# Altium footprint library Pulsadores.PcbLib: 9 footprints
Each footprint in its own frame and in the unit in brackets; x right, y up, seen from the top. Pads: shape width x height; smd on the part's side, far side on the other; paste and mask are expansions set on the pad; w line width, h text height; cw(c..) or ccw(c..) is an arc to the next point about the centre after c.
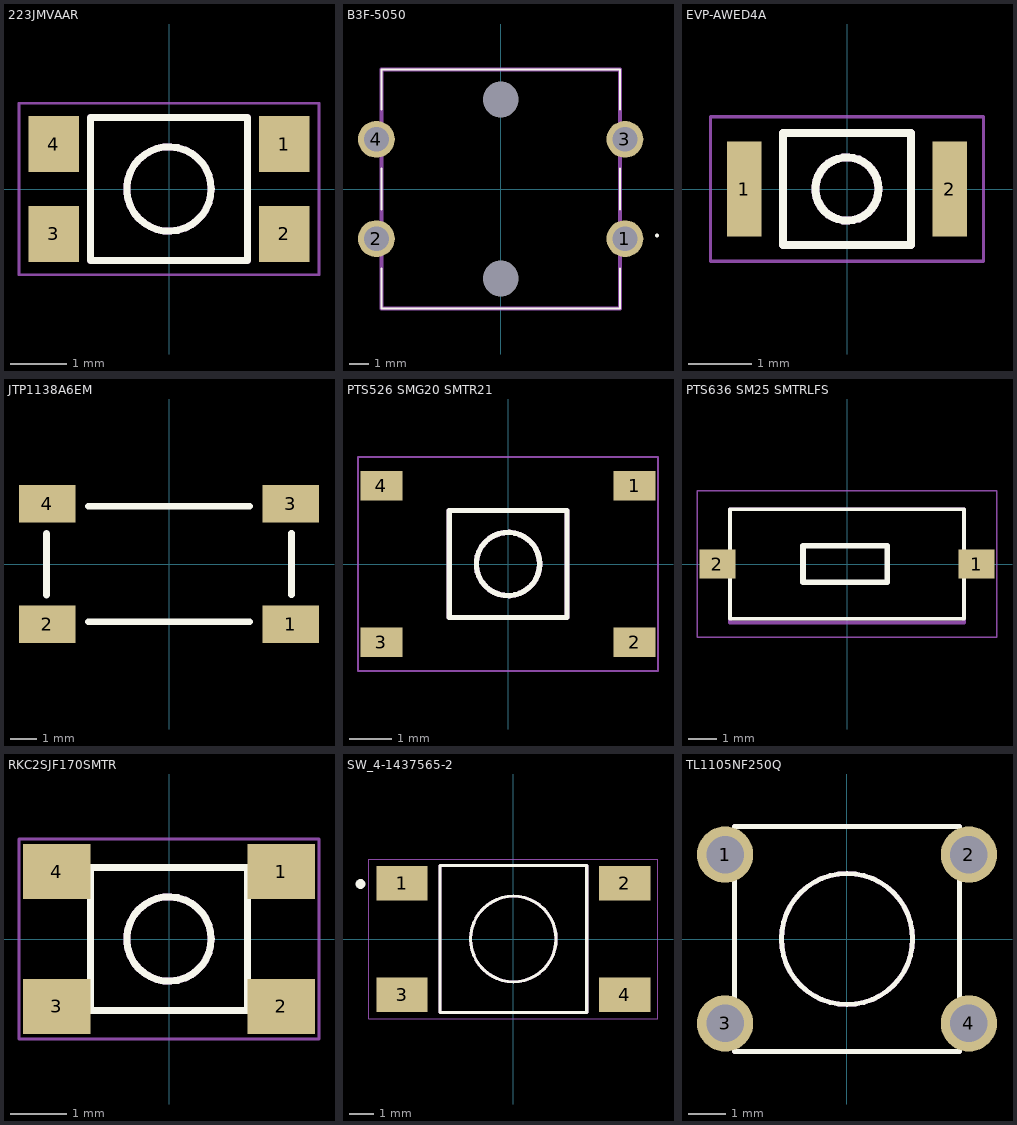
[diagram p0: the footprints below, top view; thin cyan lines are the x and y axes]

## 223JMVAAR [mm]
pads (4):
  rect 0.9x1 smd: 1(2.05,0.8) 2(2.05,-0.8) 3(-2.05,-0.8) 4(-2.05,0.8)
Top Overlay:
  circle w0.127: c0,0 r0.75
  lines w0.127: -1.397,-1.27 -1.397,1.27 1.397,1.27 1.397,-1.27 -1.397,-1.27
Mechanical 13:
  circle w0.127: c0,0 r0.75
  lines w0.127: -1.397,-1.27 1.397,-1.27 1.397,1.27 -1.397,1.27 -1.397,-1.27
Mechanical 15:
  lines w0.05: -2.667,-1.524 2.667,-1.524 2.667,1.524 -2.667,1.524 -2.667,-1.524

## B3F-5050 [mm]
pads (6):
  round 1.85 hole 1.25: 1(6.25,-2.5) 2(-6.25,-2.5) 3(6.25,2.5) 4(-6.25,2.5)
  round 0.9 hole 1.8 unplated: ""(0,-4.5) ""(0,4.5)
Top Overlay:
  lines w0.1: -6,-4 -6,-6 6,-6 6,-4 ; -6,-1.025 -6,1.025 ; -6,4 -6,6 6,6 6,4 ; 6,-1.025 6,1.025 ; 7.81,-2.34 cw(c7.861,-2.34) 7.912,-2.34 cw(c7.861,-2.34) 7.81,-2.34
Mechanical 13:
  lines w0.2: -6,-6 -6,6 6,6 6,-6 -6,-6
3D body "pulsador B3F_5050 con cubierta.STEP": height 10, standoff -3.5, extent -6.9,-6 6.9,6

## EVP-AWED4A [mm]
pads (2):
  rect 0.55x1.5 smd: 1(-1.625,0) 2(1.625,0)
Top Overlay:
  circle w0.127: c0,0 r0.5
  lines w0.127: -1.016,-0.889 1.016,-0.889 1.016,0.889 -1.016,0.889 -1.016,-0.889
Mechanical 13:
  circle w0.127: c0,0 r0.5
  lines w0.127: -1.016,-0.889 -1.016,0.889 1.016,0.889 1.016,-0.889 -1.016,-0.889
Mechanical 15:
  lines w0.05: -2.159,-1.143 -2.159,1.143 2.159,1.143 2.159,-1.143 -2.159,-1.143
3D body "pulsador EVPAW-BCE-D2A-D4A.step": height 0.56, standoff -0.04, extent -1.75,-1.1 1.75,1.1

## JTP1138A6EM [mm]
pads (4):
  rect 2.1x1.4 smd: 1(4.55,-2.25) 2(-4.55,-2.25) 3(4.55,2.25) 4(-4.55,2.25)
Top Overlay:
  lines w0.254: -4.572,-1.157 -4.572,1.143 ; -3,-2.159 3,-2.159 ; -3,2.159 3,2.159 ; 4.572,-1.15 4.572,1.15
3D body "pulsador JTP1138A6EM.STEP": height 5.4, standoff 0, extent -5,-3 5,3

## PTS526 SMG20 SMTR21 [mm]
pads (4):
  rect 1x0.7 smd: 1(3,1.85) 2(3,-1.85) 3(-3,-1.85) 4(-3,1.85)
Top Overlay:
  circle w0.127: c0,0 r0.75
  lines w0.127: -1.397,-1.27 -1.397,1.27 1.397,1.27 1.397,-1.27 -1.397,-1.27
Mechanical 13:
  circle w0.127: c0,0 r0.75
  lines w0.127: -1.397,-1.27 1.397,-1.27 1.397,1.27 -1.397,1.27 -1.397,-1.27
Mechanical 15:
  lines w0.05: -3.556,-2.54 3.556,-2.54 3.556,2.54 -3.556,2.54 -3.556,-2.54
3D body "pulsador PTS526SMG20SMTR21LFS - C&K.stp": height 2.05, standoff 0, extent -3.2,-2.54 3.2,2.56

## PTS636 SM25 SMTRLFS [mm]
pads (2):
  rect 1.25x1 smd: 1(4.5,0) 2(-4.5,0)
Top Overlay:
  lines w0.127: -4.064,-1.905 -4.064,1.905 4.064,1.905 4.064,-1.905 -4.064,-1.905
  lines w0.2: -1.524,-0.635 -1.524,0.635 1.397,0.635 1.397,-0.635 -1.524,-0.635
Mechanical 13:
  lines w0.127: -4.064,-2.032 4.064,-2.032 4.064,1.905 -4.064,1.905 -4.064,-2.032
Mechanical 15:
  lines w0.05: -5.207,-2.54 5.207,-2.54 5.207,2.54 -5.207,2.54 -5.207,-2.54
3D body "pulsador PTS636SM25SMTRLFS - C&K.stp": height 2.6, standoff 0.05, extent -4,-1.905 4,1.795

## RKC2SJF170SMTR [mm]
pads (4):
  rect 1.2x0.975 smd: 1(2,1.2) 2(2,-1.2) 3(-2,-1.2) 4(-2,1.2)
Top Overlay:
  circle w0.127: c0,0 r0.75
  lines w0.127: -1.397,-1.27 -1.397,1.27 1.397,1.27 1.397,-1.27 -1.397,-1.27
Mechanical 13:
  circle w0.127: c0,0 r0.75
  lines w0.127: -1.397,-1.27 1.397,-1.27 1.397,1.27 -1.397,1.27 -1.397,-1.27
Mechanical 15:
  lines w0.05: -2.667,-1.778 2.667,-1.778 2.667,1.778 -2.667,1.778 -2.667,-1.778
3D body "pulsador RKC2SJF170SMTR - C&K.stp": height 1.77, standoff 0.07, extent -2.032,-1.397 2.268,1.483

## SW_4-1437565-2 [mm]
pads (4):
  rect 2.1x1.4 smd: 1(-4.55,2.275) 2(4.55,2.275) 3(-4.55,-2.275) 4(4.55,-2.275)
Top Overlay:
  circle w0.127: c0,0 r1.75
  circle w0.2: c-6.25,2.25 r0.1
  lines w0.127: -3,-2.997 -3,2.997 3.002,2.997 3.002,-3 -2.992,-3
Mechanical 13:
  circle w0.127: c0,0 r1.75
  lines w0.127: -3,-3 3,-3 3,3 -3,3 -3,-3
Mechanical 15:
  lines w0.05: -5.914,-3.25 5.914,-3.25 5.914,3.25 -5.914,3.25 -5.914,-3.25
3D body "button FSM4JSMATR.STEP": height 5.13, standoff 0, extent -5,-3 5,3

## TL1105NF250Q [mm]
pads (4):
  round 1.5 hole 1: 1(-3.25,2.25) 2(3.25,2.25) 3(-3.25,-2.25) 4(3.25,-2.25)
Top Overlay:
  circle w0.127: c0,0 r1.75
  lines w0.127: -3,-2.997 -3,2.997 3.002,2.997 3.002,-3 -2.992,-3
Mechanical 13:
  circle w0.127: c0,0 r1.75
  lines w0.127: -3,-3 -3,3 3,3 3,-3 -3,-3
3D body "pulsador Tactile switch 6x6x9_5mm.STEP": height 9.56, standoff -3.21, extent -3.96,-3.1 3.96,3.1